# Altium schematic symbol library U_TLV27L1IDBVR.Schlib: 1 symbol
Pins are listed as number, name and electrical type; pins without a type are passive.

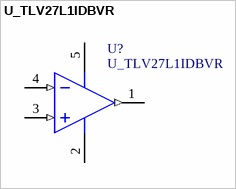
[diagram p0: symbol U_TLV27L1IDBVR]

## U_TLV27L1IDBVR
designator U?
11 uA/Ch, 160 kHz, RR-Out Operational Amplifier, 2.7 to 16 V, -40 to 125 degC, 5-pin SOT23 (DBV5), Green (RoHS & no Sb/Br)
pins: 1 OUT (out), 2 GND (power), 3 IN+ (in), 4 IN- (in), 5 VDD (power)